# Altium footprint library TE_4-1437565-9.PcbLib: 1 footprints
Each footprint in its own frame and in the unit in brackets; x right, y up, seen from the top. Pads: shape width x height; smd on the part's side, far side on the other; paste and mask are expansions set on the pad; w line width, h text height; cw(c..) or ccw(c..) is an arc to the next point about the centre after c.
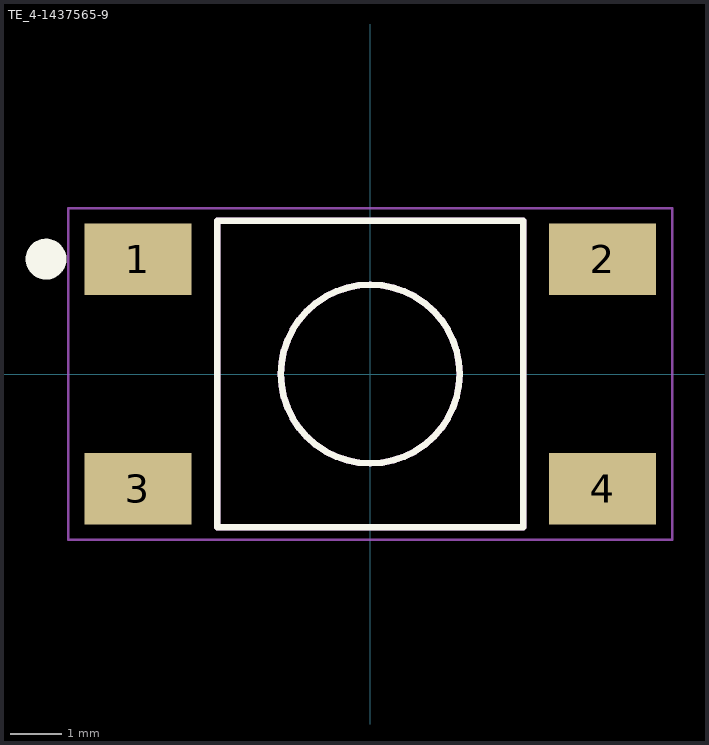
[diagram p0: the footprint, top view; thin cyan lines are the x and y axes]

## TE_4-1437565-9 [mm]
pads (4):
  rect 2.1x1.4 smd: 1(-4.55,2.25) 2(4.55,2.25) 3(-4.55,-2.25) 4(4.55,-2.25)
Top Overlay:
  circle w0.4: c-6.35,2.25 r0.2
  circle w0.127: c0,0 r1.75
  lines w0.127: -3,-2.997 -3,3 3,3 3,-3 -2.992,-3
Mechanical 13:
  circle w0.127: c0,0 r1.75
  lines w0.127: -3,-3 -3,3 3,3 3,-3 -3,-3
Mechanical 15:
  lines w0.05: -5.914,-3.25 -5.914,3.25 5.914,3.25 5.914,-3.25 -5.914,-3.25
3D body "step_temp.STEP": height 7.26, standoff 0, extent -5,-3 5,3